# Altium schematic symbol library SCH - MISC - HFBR-25XXZ.SCHLIB: 1 symbol
Pins are listed as number, name and electrical type; pins without a type are passive.

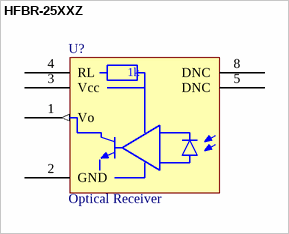
[diagram p0: symbol HFBR-25XXZ]

## HFBR-25XXZ
designator U?, comment Optical Receiver
Fibre Optic Receivers, LINK HORIZ 5MBd RC VR RoHS; MPN: HFBR-2521Z; Suppier Part Number 2: 516-2062-ND; MF: Boadcom/Avago; Wavelength: 660 nm; Iout max: 25 mA; Supply Voltage: 5V; Created: 2019_04_09_Kreppel; Data Rate: 5 MBd; Supplier 1: Mouser; Supplier 2: Digi-Key; Supplier Part Number 1: 630-HFBR-2521Z
footprint HFBRx5XX
pins: 1 Vo (out) "Data", 2 GND (power) "Ground", 3 Vcc (power) "Source", 4 RL, 5 DNC "Do Not Connect", 8 DNC "Do Not Connect"
text: 1k